# Altium footprint library Jack_PCB_Lib1.PcbLib: 66 footprints (part 1 of 5)
Each footprint in its own frame and in the unit in brackets; x right, y up, seen from the top. Pads: shape width x height; smd on the part's side, far side on the other; paste and mask are expansions set on the pad; w line width, h text height; cw(c..) or ccw(c..) is an arc to the next point about the centre after c.
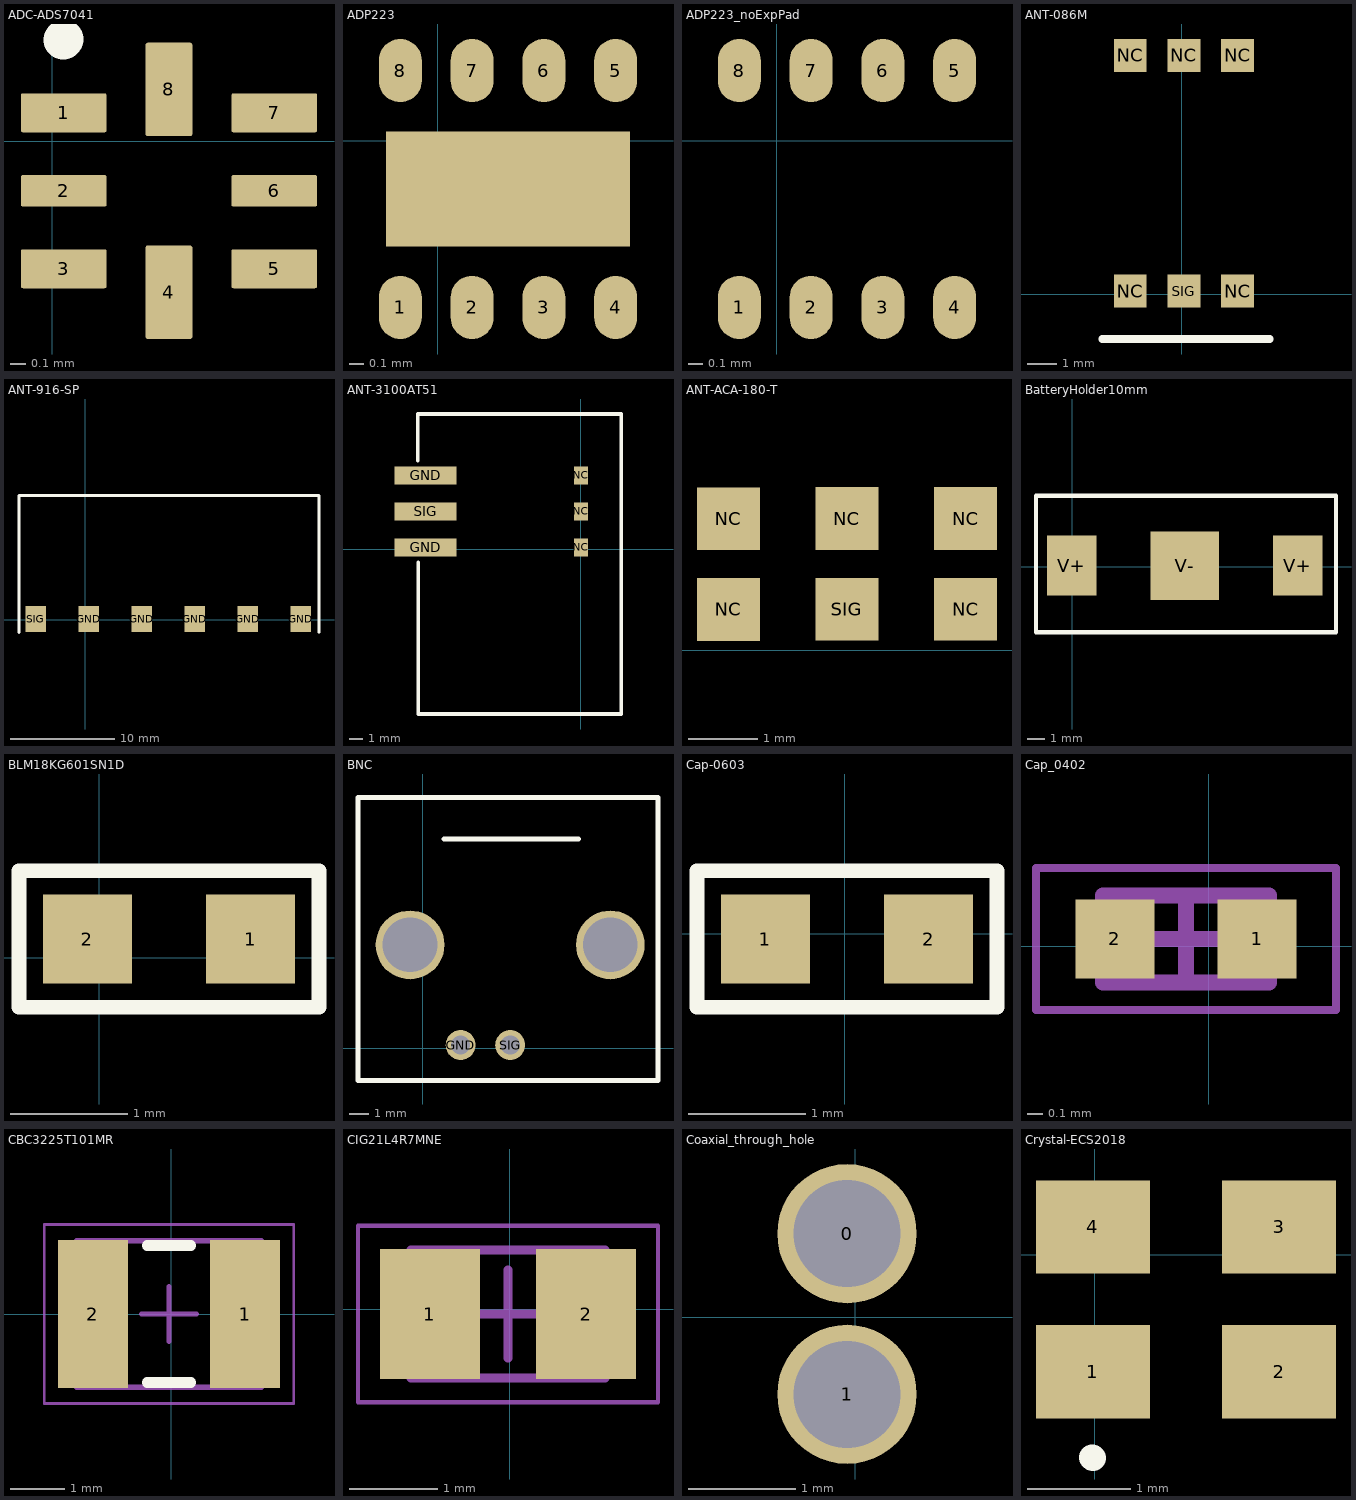
[diagram p0: the footprints below, top view; thin cyan lines are the x and y axes]

## ADC-ADS7041 [mm]
pads (8):
  rrect10% 0.55x0.25 smd mask+0.07: 1(0.075,0.183) 3(0.075,-0.816) 5(1.425,-0.816) 7(1.425,0.183)
  rrect10% 0.55x0.2 smd mask+0.07: 2(0.075,-0.316) 6(1.425,-0.316)
  rrect10% 0.3x0.6 smd mask+0.07: 4(0.75,-0.967) 8(0.75,0.333)
Top Overlay:
  lines w0.254: 0.073,0.651 0.075,0.657

## ADP223 [mm]
pads (9):
  oval 0.3x0.44 smd mask+0.07: 1(-0.26,-1.162) 2(0.241,-1.162) 3(0.74,-1.162) 4(1.241,-1.162) 5(1.241,0.488) 6(0.741,0.488) 7(0.241,0.488) 8(-0.259,0.488)
  rect 1.7x0.8 smd mask+0.08: ""(0.491,-0.337)

## ADP223_noExpPad [mm]
pads (8):
  oval 0.3x0.44 smd mask+0.07: 1(-0.26,-1.162) 2(0.241,-1.162) 3(0.74,-1.162) 4(1.241,-1.162) 5(1.241,0.488) 6(0.741,0.488) 7(0.241,0.488) 8(-0.259,0.488)

## ANT-086M [mm]
pads (6):
  rect 1.1x1.1 smd: NC(-1.721,0.1) NC(-1.721,8) NC(0.079,8) NC(1.879,0.1) NC(1.879,8) SIG(0.079,0.1)
Top Overlay:
  lines w0.254: -2.661,-1.506 2.961,-1.506

## ANT-916-SP [mm]
pads (6):
  rect 2x2.5 smd: GND(0.339,0.055) GND(5.439,0.055) GND(10.539,0.055) GND(15.639,0.055) GND(20.739,0.055) SIG(-4.761,0.055)
Top Overlay:
  lines w0.254: -6.373,-1.22 -6.373,11.953 22.497,11.953 22.497,-1.188

## ANT-3100AT51 [mm]
pads (6):
  rect 4.5x1.3 smd: GND(-11.231,0.155) GND(-11.231,5.355) SIG(-11.231,2.755)
  rect 1x1.3 smd: NC(0.016,0.155) NC(0.016,2.755) NC(0.016,5.355)
Top Overlay:
  lines w0.254: -11.791,6.403 -11.791,9.803 2.942,9.803 2.942,-11.912 -11.774,-11.912 -11.774,-8.823 -11.774,-2.774 -11.774,-0.924

## ANT-ACA-180-T [mm]
pads (6):
  rect 0.9x0.9 smd: NC(1.002,0.583) NC(1.002,1.883) NC(2.702,1.883) NC(4.402,0.583) NC(4.402,1.883) SIG(2.702,0.583)

## BatteryHolder10mm [mm]
pads (3):
  rect 2.9x3.5 smd: V+(-0.029,0.076) V+(13.171,0.076)
  rect 4x4 smd: V-(6.57,0.076)
Top Overlay:
  lines w0.254: -2.124,-3.829 15.4,-3.829 ; -2.124,-3.827 -2.124,4.173 15.4,4.173 ; 15.42,-3.827 15.42,4.173

## BLM18KG601SN1D [mil]
pads (2):
  rect 30x30 smd: 1(50.93,6.25) 2(-4.07,6.25)
Top Overlay:
  lines w5: -27.07,-16.75 -27.07,29.25 73.93,29.25 73.93,-16.75 -27.07,-16.75
3D body: height 19, standoff 0, extent 38.93,-8.75 54.93,21.25
3D body: height 19, standoff 0, extent -8.07,-8.75 7.93,21.25
3D body: height 18, standoff 0, extent -7.07,-7.75 53.93,20.25

## BNC [mm]
pads (4):
  round 1.524 hole 0.98: GND(1.925,0.15) SIG(4.45,0.15)
  round 3.5 hole 2.78: ""(-0.65,5.25) ""(9.55,5.25)
Top Overlay:
  lines w0.254: 1.075,10.65 7.925,10.65 ; -3.3,-1.65 -3.3,12.75 11.975,12.75 11.975,-1.65 -3.3,-1.65

## Cap-0603 [mil] "0603 Capacitor"
height 35.04
pads (2):
  rect 30x30 smd: 1(-26.74,-1.7) 2(28.26,-1.7)
Top Overlay:
  lines w5: -49.74,-24.7 51.26,-24.7 51.26,21.3 -49.74,21.3 -49.74,-24.7
3D body: height 18, standoff 0, extent -29.74,-15.7 31.26,12.3
3D body: height 19, standoff 0, extent -30.74,-16.7 -14.74,13.3
3D body: height 19, standoff 0, extent 16.26,-16.7 32.26,13.3

## Cap_0402 [mm]
pads (2):
  rect 0.5x0.5 smd: 1(0.305,0.046) 2(-0.595,0.046)
Mechanical 13:
  lines w0.1: -0.67,-0.229 -0.67,0.321 0.38,0.321 0.38,-0.229 -0.67,-0.229
Mechanical 15:
  lines w0.05: -1.095,-0.404 -1.095,0.496 0.805,0.496 0.805,-0.404 -1.095,-0.404
  lines w0.1: -0.42,0.046 0.13,0.046 ; -0.145,-0.229 -0.145,0.321
3D body: height 0.5, standoff 0, extent -0.42,-0.229 0.13,0.321
3D body: height 0.5, standoff 0, extent -0.67,-0.229 -0.42,0.321
3D body: height 0.5, standoff 0, extent 0.13,-0.229 0.38,0.321

## CBC3225T101MR [mm]
pads (2):
  rect 1.29x2.72 smd: 1(1.362,0.003) 2(-1.448,0.003)
Top Overlay:
  lines w0.2: -0.443,-1.257 0.357,-1.257 ; -0.443,1.263 0.357,1.263
Mechanical 13:
  lines w0.1: -1.743,-1.347 1.657,-1.347 1.657,1.353 -1.743,1.353 -1.743,-1.347
Mechanical 15:
  lines w0.05: -2.343,-1.647 2.257,-1.647 2.257,1.653 -2.343,1.653 -2.343,-1.647
  lines w0.1: -0.543,0.003 0.457,0.003 ; -0.043,-0.497 -0.043,0.503
3D body: height 2.7, standoff 0, extent -1.743,-1.347 -1.143,1.353
3D body: height 2.7, standoff 0, extent 1.057,-1.347 1.657,1.353
3D body: height 2.7, standoff 0, extent -1.143,-1.347 1.057,1.353

## CIG21L4R7MNE [mm]
pads (2):
  rect 1.13x1.47 smd: 1(-0.905,-0.056) 2(0.865,-0.056)
Mechanical 13:
  lines w0.1: -1.12,-0.781 -1.12,0.669 1.08,0.669 1.08,-0.781 -1.12,-0.781
Mechanical 15:
  lines w0.05: -1.72,-1.056 -1.72,0.944 1.68,0.944 1.68,-1.056 -1.72,-1.056
  lines w0.1: -0.52,-0.056 0.48,-0.056 ; -0.02,-0.556 -0.02,0.444
3D body: height 1.05, standoff 0, extent -0.62,-0.781 0.58,0.669
3D body: height 1.05, standoff 0, extent -1.12,-0.781 -0.62,0.669
3D body: height 1.05, standoff 0, extent 0.58,-0.781 1.08,0.669

## Coaxial_through_hole [mm]
pads (2):
  round 1.3 hole 1 mask+0: 0(-0.077,0.779) 1(-0.077,-0.721)

## Crystal-ECS2018 [mm]
pads (4):
  rect 1.1x0.9 smd: 1(-0.016,-1.13) 2(1.784,-1.13) 3(1.784,0.269) 4(-0.016,0.269)
Top Overlay:
  lines w0.254: -0.023,-1.96 -0.015,-1.964